# Altium schematic symbol library Flight_Computer1.SCHLIB: 60 symbols (part 1 of 4)
Pins are listed as number, name and electrical type; pins without a type are passive.

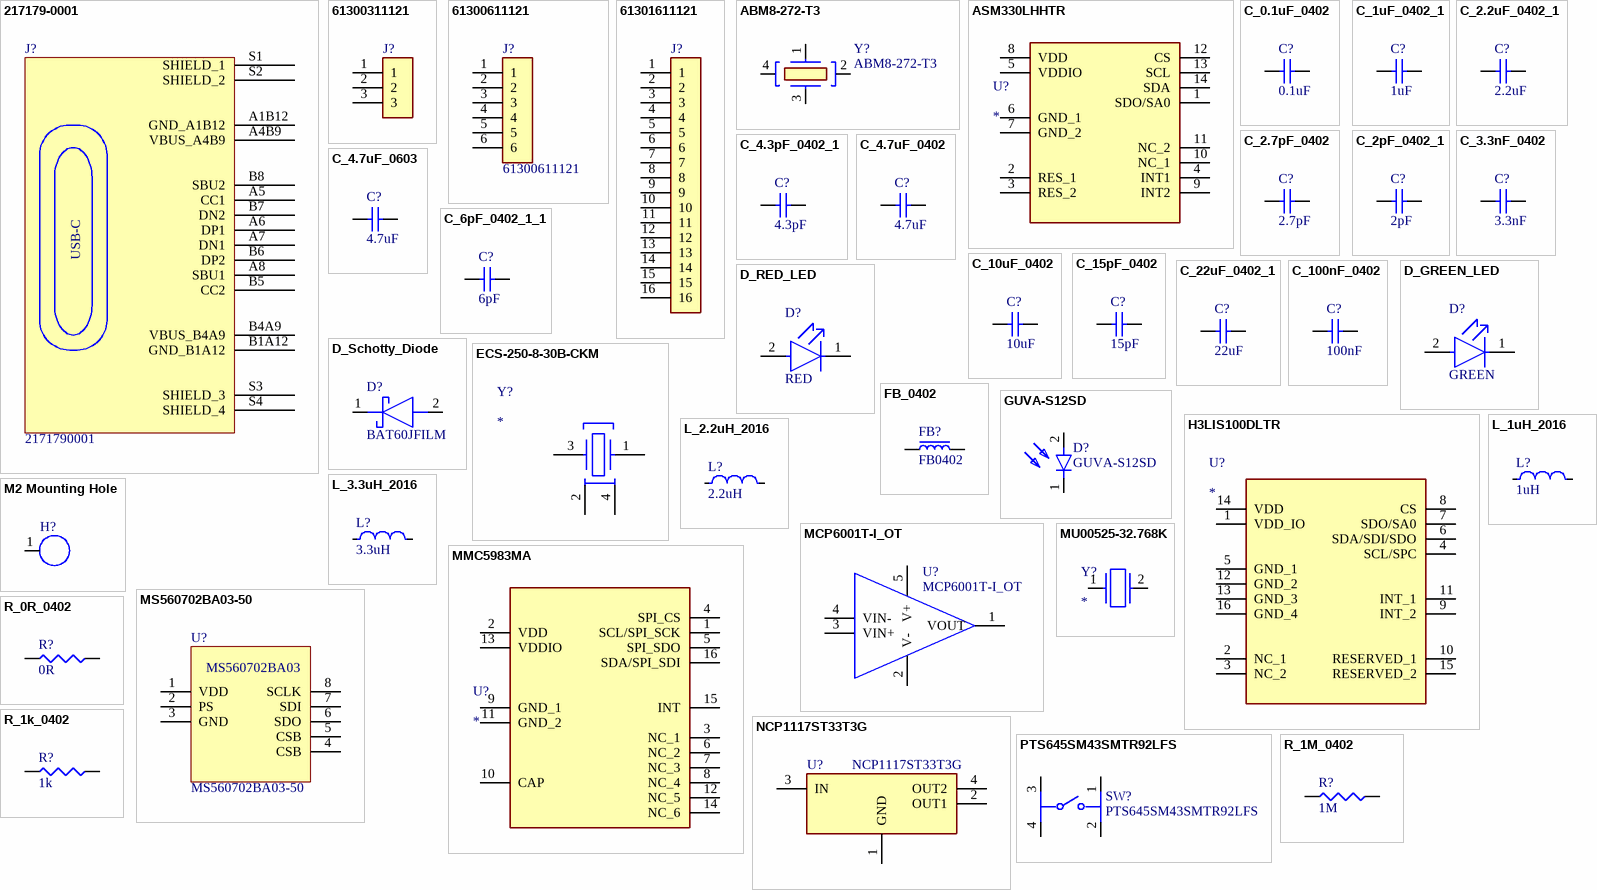
[diagram p0: symbols 217179-0001 to R_1M_0402]

## 217179-0001
designator J?, comment 2171790001
CONN RCP USB2.0 TYP C 24P SMD RA; Manufacturer: Molex; Manufacturer Part Number: 217179-0001; Supplier: Digikey; Supplier Part Number: 900-2171790001CT-ND; RoHS: No; Category: Connectors; Stock: 11294; Pricing: 1=0.98, 10=0.731, 25=0.6564, 50=0.6074, 100=0.5642, 250=0.51468, 500=0.48234, 1200=0.44689, 2400=0.42258, 3600=0.40973, 6000=0.39484, 8400=0.38577, 12000=0.37675 (USD); LCSC Part #: C3197684
footprint FP-2171790001-MFG
pins: A1B12 GND_A1B12, A4B9 VBUS_A4B9, A5 CC1, A6 DP1, A7 DN1, A8 SBU1, B1A12 GND_B1A12, B4A9 VBUS_B4A9, B5 CC2, B6 DP2, B7 DN2, B8 SBU2, S1 SHIELD_1, S2 SHIELD_2, S3 SHIELD_3, S4 SHIELD_4
text: USB-C

## 61300311121
designator J?  (value not drawn)
3 pin Connector 2.54mm; Manufacturer_Name: Wurth Elektronik; Manufacturer_Part_Number: 61300711121; Datasheet Link: http://katalog.we-online.de/em/datasheet/6130xx11121.pdf; Height: 8.69mm; Mouser Part Number: 710-61300711121; Mouser Price/Stock: https://www.mouser.co.uk/ProductDetail/Wurth-Elektronik/61300711121?qs=PhR8RmCirEa4Kw6rJ18PJA%3D%3D
footprint WURTH_61300311121
pins: 1, 2, 3

## 61300611121
designator J?
THT Vertical Pin Header WR-PHD, Pitch 2.54 mm, Single Row, 6 pins; Manufacturer_Name: Wurth Elektronik; Manufacturer_Part_Number: 61300711121; Connector Type: Male Pin; Contact Resistance: 20mΩ; Current Rating: 3A; Gender: Male; Number of Contacts: 6; Operating Supply Voltage: 250V; Pitch: 2.54mm; Datasheet Link: http://katalog.we-online.de/em/datasheet/6130xx11121.pdf; Height: 8.69mm; Mouser Part Number: 710-61300711121; Mouser Price/Stock: https://www.mouser.co.uk/ProductDetail/Wurth-Elektronik/61300711121?qs=PhR8RmCirEa4Kw6rJ18PJA%3D%3D; Supplier: DigiKey; Supplier Part Number: 732-5319-ND; Manufacturer: Wurth Elektronik; Manufacturer Part Number: 61300611121; RoHS: Compliant; Category: Headers and Wire Housings; Stock: 56086; Pricing: 1=0.31, 10=0.268, 25=0.2224, 50=0.1864, 100=0.1683, 1000=0.1539 (USD); Color: Black; Contact Gender: Male; Contact Material: Gold; Contact Mating Length: 5.9944mm; Contact Plating: Gold; Housing Material: PBT; Lead Free: Lead Free; Lead Pitch: 2.54mm; Max Operating Temperature: 105°C; Min Operating Temperature: -40°C; Mounting Technology: Through Hole; Pins: 6; Number of Positions: 6; Number of Rows: 1; Orientation: Vertical; Packaging: Bulk; Termination: Through Hole; Voltage Rating: 250V; ComponentLink1URL: https://datasheet.octopart.com:443/61300611121-W%C3%BCrth-Elektronik-datasheet-44382959.pdf?src-supplier=Future+Electronics; ComponentLink1Description: https://datasheet.octopart.com:443/61300611121-W%C3%BCrth-Elektronik-datasheet-44382959.pdf?src-supplier=Future+Electronics; ComponentLink2URL: https://datasheet.octopart.com:443/61300611121-W%C3%BCrth-Elektronik-datasheet-149524072.pdf?src-supplier=Farnell; ComponentLink2Description: https://datasheet.octopart.com:443/61300611121-W%C3%BCrth-Elektronik-datasheet-149524072.pdf?src-supplier=Farnell; ComponentLink3URL: https://datasheet.octopart.com:443/61300611121-Wurth-Elektronik-datasheet-181533275.pdf?src-supplier=Farnell; ComponentLink3Description: https://datasheet.octopart.com:443/61300611121-Wurth-Elektronik-datasheet-181533275.pdf?src-supplier=Farnell; ComponentLink4URL: https://datasheet.octopart.com:443/61300611121-W%C3%BCrth-Elektronik-datasheet-21154836.pdf?src-supplier=element14+APAC; ComponentLink4Description: https://datasheet.octopart.com:443/61300611121-W%C3%BCrth-Elektronik-datasheet-21154836.pdf?src-supplier=element14+APAC
footprint 61300611121
pins: 1, 2, 3, 4, 5, 6

## 61301611121
designator J?  (value not drawn)
16 pin Connector 2.54mm; Manufacturer_Name: Wurth Elektronik; Manufacturer_Part_Number: 61300711121; Datasheet Link: http://katalog.we-online.de/em/datasheet/6130xx11121.pdf; Height: 8.69mm; Mouser Part Number: 710-61300711121; Mouser Price/Stock: https://www.mouser.co.uk/ProductDetail/Wurth-Elektronik/61300711121?qs=PhR8RmCirEa4Kw6rJ18PJA%3D%3D
footprint 61301611121
pins: 1, 2, 3, 4, 5, 6, 7, 8, 9, 10, 11, 12, 13, 14, 15, 16

## ABM8-272-T3
designator Y?
Crystal or Oscillator; Manufacturer_Name: ABRACON; Datasheet Link: https://abracon.com/datasheets/ABM8-272-T3.pdf; Height: 0.8mm; Manufacturer_Part_Number: ABM8-272-T3; Mouser Part Number: 815-ABM8-272-T3; Mouser Price/Stock: https://www.mouser.co.uk/ProductDetail/ABRACON/ABM8-272-T3?qs=QpmGXVUTftEj6miOiJBMxQ%3D%3D; LCSC Part #: C20625731
footprint ABM8272T3
pins: 1, 2 GND_1, 3, 4 GND_2

## ASM330LHHTR
designator U?
Accelerometer and Gyroscope 6-Axis 3D Digital-I2C/Digital-SPI-OUT 14-Pin LGA T/R; Manufacturer_Name: STMicroelectronics; Manufacturer_Part_Number: ASM330LHHTR; Max Supply Voltage: 3.6V; Min Supply Voltage: 2V; Number of Circuits: 1; Operating Supply Voltage: 3V; Datasheet Link: https://www.st.com/resource/en/datasheet/asm330lhh.pdf; Height: 0.86mm; Mouser Part Number: 511-ASM330LHHTR; Mouser Price/Stock: https://www.mouser.co.uk/ProductDetail/STMicroelectronics/ASM330LHHTR?qs=lc2O%252BfHJPVYgP8P9MzExKQ%3D%3D; Arrow Part Number: ASM330LHHTR; Arrow Price/Stock: https://www.arrow.com/en/products/asm330lhhtr/stmicroelectronics?utm_currency=USD&region=europe; Supplier: DigiKey; Supplier Part Number: 497-19078-1-ND; Manufacturer: STMicroelectronics; Manufacturer Part Number: ASM330LHHTR; RoHS: Compliant; Category: Accelerometers; Stock: 5000; Pricing: 1=7.25, 5=6.54, 10=6.275, 25=5.9592, 50=5.743, 100=5.545, 500=5.34888 (USD); China RoHS: Non-Compliant; Height - Seated (Max): 860µm; Length: 3mm; Lifecycle Status: Production; Max Operating Temperature: 105°C; Min Operating Temperature: -40°C; Number of Terminals: 14; Output Type: Digital; REACH SVHC: Yes; Terminal Pitch: 500µm; Width: 2.5mm; ComponentLink1URL: https://datasheet.octopart.com:443/ASM330LHHTR-STMicroelectronics-datasheet-181242432.pdf?src-supplier=IHS; ComponentLink1Description: https://datasheet.octopart.com:443/ASM330LHHTR-STMicroelectronics-datasheet-181242432.pdf?src-supplier=IHS; ComponentLink2URL: https://datasheet.octopart.com:443/ASM330LHHTR-STMicroelectronics-datasheet-129375621.pdf?src-supplier=ODG+(Origin+Data+Global); ComponentLink2Description: https://datasheet.octopart.com:443/ASM330LHHTR-STMicroelectronics-datasheet-129375621.pdf?src-supplier=ODG+(Origin+Data+Global); LCSC Part #: C459826
footprint LSM6DS3USTR
pins: 1 SDO/SA0, 2 RES_1, 3 RES_2, 4 INT1, 5 VDDIO, 6 GND_1, 7 GND_2, 8 VDD, 9 INT2, 10 NC_1, 11 NC_2, 12 CS, 13 SCL, 14 SDA

## C_0.1uF_0402
designator C?, comment 0.1uF
Ceramic Capacitor, Ceramic, 16V, 10% +Tol, 10% -Tol, X7R, 15% TC, 0.1uF, Surface Mount, 0402; Manufacturer: Murata; Manufacturer Part Number: GCM155R71C104KA55J; Manufacturer Lifecycle Status: IN PRODUCTION; Value: 100nF; Supplier: DigiKey; Supplier Part Number: 490-7998-1-ND; RoHS: Compliant; Category: Ceramic Capacitors; Stock: 11058802; Pricing: 1=0.1, 10=0.029, 50=0.0194, 100=0.0165, 500=0.01168, 1000=0.01021, 2500=0.00867, 5000=0.00775 (USD); Case/Package: 0402; Case Code (Imperial): 0402; Case Code (Metric): 1005; Depth: 500µm; Dielectric: X7R; Dielectric Material: Ceramic; Height: 500µm; Lead Free: Lead Free; Length: 1mm; Lifecycle Status: Production; Material: Ceramic; Max Operating Temperature: 125°C; Min Operating Temperature: -55°C; Mounting Technology: Surface Mount; Number of Terminals: 2; Radiation Hardening: No; Ratings: AEC-Q200; REACH SVHC: Yes; Schedule B: 8532240020, 8532240020|8532240020, 8532240020|8532240020|8532240020, 8532240020|8532240020|8532240020|8532240020; Termination: SMD/SMT; Tolerance: 10%; Voltage Rating: 16V; Voltage Rating (DC): 16V; Width: 500µm; ComponentLink1URL: https://datasheet.octopart.com:443/GCM155R71C104KA55J-Murata-datasheet-149522428.pdf?src-supplier=Newark; ComponentLink1Description: https://datasheet.octopart.com:443/GCM155R71C104KA55J-Murata-datasheet-149522428.pdf?src-supplier=Newark; ComponentLink2URL: https://datasheet.octopart.com:443/GCM155R71C104KA55J-Murata-datasheet-14404342.pdf?src-supplier=Future+Electronics; ComponentLink2Description: https://datasheet.octopart.com:443/GCM155R71C104KA55J-Murata-datasheet-14404342.pdf?src-supplier=Future+Electronics; ComponentLink3URL: https://datasheet.octopart.com:443/GCM155R71C104KA55J-Murata-datasheet-13304905.pdf?src-supplier=Future+Electronics; ComponentLink3Description: https://datasheet.octopart.com:443/GCM155R71C104KA55J-Murata-datasheet-13304905.pdf?src-supplier=Future+Electronics; ComponentLink4URL: https://datasheet.octopart.com:443/GCM155R71C104KA55J-Murata-datasheet-44104237.pdf?src-supplier=Future+Electronics; ComponentLink4Description: https://datasheet.octopart.com:443/GCM155R71C104KA55J-Murata-datasheet-44104237.pdf?src-supplier=Future+Electronics; ComponentLink5URL: https://datasheet.octopart.com:443/GCM155R71C104KA55J-Murata-datasheet-178521754.pdf?src-supplier=Arrow.cn; ComponentLink5Description: https://datasheet.octopart.com:443/GCM155R71C104KA55J-Murata-datasheet-178521754.pdf?src-supplier=Arrow.cn; ComponentLink6URL: https://datasheet.octopart.com:443/GCM155R71C104KA55J-Murata-datasheet-141266224.pdf?src-supplier=Ciiva; ComponentLink6Description: https://datasheet.octopart.com:443/GCM155R71C104KA55J-Murata-datasheet-141266224.pdf?src-supplier=Ciiva; ComponentLink7URL: https://datasheet.octopart.com:443/GCM155R71C104KA55J-Murata-datasheet-140656701.pdf?src-supplier=Ciiva; ComponentLink7Description: https://datasheet.octopart.com:443/GCM155R71C104KA55J-Murata-datasheet-140656701.pdf?src-supplier=Ciiva; ComponentLink8URL: https://datasheet.octopart.com:443/GCM155R71C104KA55J-Murata-datasheet-138716406.pdf?src-supplier=Ciiva; ComponentLink8Description: https://datasheet.octopart.com:443/GCM155R71C104KA55J-Murata-datasheet-138716406.pdf?src-supplier=Ciiva; ComponentLink9URL: https://datasheet.octopart.com:443/GCM155R71C104KA55J-Murata-datasheet-12511495.pdf?src-supplier=TME; ComponentLink9Description: https://datasheet.octopart.com:443/GCM155R71C104KA55J-Murata-datasheet-12511495.pdf?src-supplier=TME; ComponentLink10URL: http://sigma.octopart.com:80/reach_statement/Murata-company-16.pdf?src-supplier=Compliance+Statements; ComponentLink10Description: http://sigma.octopart.com:80/reach_statement/Murata-company-16.pdf?src-supplier=Compliance+Statements; LCSC Part #: C2655418
footprint 0402_C
pins: 1, 2

## C_1uF_0402_1
designator C?, comment 1uF
CAP CER 1UF 6.3V X5R 0402; Manufacturer: KYOCERA AVX; Manufacturer Part Number: 04026D105KAT4A; Value: 1µF; Dielectric Material: Ceramic; Tolerance: 10%; Supplier: DigiKey; Supplier Part Number: 478-KGM05AR50J105KNCT-ND; RoHS: Compliant; Category: Ceramic Capacitors; Stock: 202864; Pricing: 1=0.1, 10=0.047, 50=0.0318, 100=0.0274, 500=0.01992, 1000=0.01763, 2500=0.01522, 5000=0.01376 (USD); Case/Package: 0402; Case Code (Imperial): 0402; Case Code (Metric): 1005; China RoHS: Compliant; Contact Plating: Tin; Depth: 500µm; Dielectric: X5R; Height: 560µm; Lead Free: Lead Free; Length: 1mm; Lifecycle Status: Production; Max Operating Temperature: 85°C; Min Operating Temperature: -55°C; Mounting Technology: Surface Mount; Pins: 2; Number of Terminals: 2; Packaging: Tape and Reel; Radiation Hardening: No; REACH SVHC: Yes; Termination: SMD/SMT; Voltage Rating: 6.3V; Voltage Rating (DC): 6.3V; Width: 500µm; ComponentLink1URL: https://datasheet.octopart.com:443/04026D105KAT4A-KYOCERA-AVX-datasheet-165873359.pdf?src-supplier=IHS; ComponentLink1Description: https://datasheet.octopart.com:443/04026D105KAT4A-KYOCERA-AVX-datasheet-165873359.pdf?src-supplier=IHS; ComponentLink2URL: https://datasheet.octopart.com:443/04026D105KAT4A-AVX-Interconnect---Elco-datasheet-12340990.pdf?src-supplier=Farnell; ComponentLink2Description: https://datasheet.octopart.com:443/04026D105KAT4A-AVX-Interconnect---Elco-datasheet-12340990.pdf?src-supplier=Farnell; ComponentLink3URL: https://datasheet.octopart.com:443/04026D105KAT4A-KYOCERA-AVX-datasheet-78690022.pdf?src-supplier=element14+APAC; ComponentLink3Description: https://datasheet.octopart.com:443/04026D105KAT4A-KYOCERA-AVX-datasheet-78690022.pdf?src-supplier=element14+APAC; ComponentLink4URL: https://datasheet.octopart.com:443/04026D105KAT4A-KYOCERA-AVX-datasheet-155912759.pdf?src-supplier=TME; ComponentLink4Description: https://datasheet.octopart.com:443/04026D105KAT4A-KYOCERA-AVX-datasheet-155912759.pdf?src-supplier=TME; ComponentLink5URL: https://datasheet.octopart.com:443/04026D105KAT4A-KYOCERA-AVX-datasheet-50865064.pdf?src-supplier=Future+Electronics; ComponentLink5Description: https://datasheet.octopart.com:443/04026D105KAT4A-KYOCERA-AVX-datasheet-50865064.pdf?src-supplier=Future+Electronics; ComponentLink6URL: https://datasheet.octopart.com:443/04026D105KAT4A-AVX-datasheet-8448153.pdf?src-supplier=Future+Electronics; ComponentLink6Description: https://datasheet.octopart.com:443/04026D105KAT4A-AVX-datasheet-8448153.pdf?src-supplier=Future+Electronics; ComponentLink7URL: https://datasheet.octopart.com:443/04026D105KAT4A-AVX-datasheet-5314571.pdf?src-supplier=Future+Electronics; ComponentLink7Description: https://datasheet.octopart.com:443/04026D105KAT4A-AVX-datasheet-5314571.pdf?src-supplier=Future+Electronics; ComponentLink8URL: https://datasheet.octopart.com/04026D105KAT4A-KYOCERA-AVX-datasheet-13516023.pdf; ComponentLink8Description: https://datasheet.octopart.com/04026D105KAT4A-KYOCERA-AVX-datasheet-13516023.pdf; ComponentLink9URL: http://sigma.octopart.com:80/reach_statement/AVX-company-19.pdf?src-supplier=Compliance+Statements; ComponentLink9Description: http://sigma.octopart.com:80/reach_statement/AVX-company-19.pdf?src-supplier=Compliance+Statements; ComponentLink10URL: http://sigma.octopart.com:80/conflict_mineral_statement/AVX-company-34.pdf?src-supplier=Compliance+Statements; ComponentLink10Description: http://sigma.octopart.com:80/conflict_mineral_statement/AVX-company-34.pdf?src-supplier=Compliance+Statements; LCSC Part #: C2170652
footprint 0402_C
pins: 1, 2

## C_2.2uF_0402_1
designator C?, comment 2.2uF
Ceramic Capacitor, Ceramic, 25V, 20% +Tol, 20% -Tol, X5R, 15% TC, 2.2uF, Surface Mount, 0402; Manufacturer: Yageo Group; Manufacturer Part Number: CC0402MRX5R8BB225; Dielectric: C0G; Insulation Resistance: 10GΩ; Temperature Coefficient: 30ppm/°C; Voltage Rating: 50V; Value: 2.2µF; Case/Package: 0402; Case Code (Imperial): 0402; Case Code (Metric): 1005; China RoHS: Compliant; Composition: Ceramic; Depth: 500µm; Dielectric Material: Ceramic; Halogen Free: Halogen Free; Height: 500µm; Lead Free: Lead Free; Length: 1mm; Lifecycle Status: Production; Max Operating Temperature: 125°C; Min Operating Temperature: -55°C; Mounting Technology: Surface Mount; Pins: 2; Number of Terminals: 2; Packaging: Tape & Reel (TR); Radiation Hardening: No; REACH SVHC: Yes; Schedule B: 8532240020, 8532240020|8532240020|8532240020|8532240020|8532240020; Termination: SMD/SMT; Thickness: 558.8µm; Voltage Rating (DC): 50V; Weight: 652.039032µg; Width: 500µm; ComponentLink1URL: https://datasheet.octopart.com:443/CC0402CRNPO9BN2R7-Yageo-datasheet-182140217.pdf?src-supplier=IHS; ComponentLink1Description: https://datasheet.octopart.com:443/CC0402CRNPO9BN2R7-Yageo-datasheet-182140217.pdf?src-supplier=IHS; ComponentLink2URL: https://datasheet.octopart.com:443/CC0402CRNPO9BN2R7-Yageo-datasheet-151948684.pdf?src-supplier=Farnell; ComponentLink2Description: https://datasheet.octopart.com:443/CC0402CRNPO9BN2R7-Yageo-datasheet-151948684.pdf?src-supplier=Farnell; ComponentLink3URL: https://datasheet.octopart.com:443/CC0402CRNPO9BN2R7-Yageo-datasheet-181966735.pdf?src-supplier=Farnell; ComponentLink3Description: https://datasheet.octopart.com:443/CC0402CRNPO9BN2R7-Yageo-datasheet-181966735.pdf?src-supplier=Farnell; ComponentLink4URL: https://datasheet.octopart.com:443/CC0402CRNPO9BN2R7-Yageo-datasheet-137875056.pdf?src-supplier=Future+Electronics; ComponentLink4Description: https://datasheet.octopart.com:443/CC0402CRNPO9BN2R7-Yageo-datasheet-137875056.pdf?src-supplier=Future+Electronics; ComponentLink5URL: https://datasheet.octopart.com:443/CC0402CRNPO9BN2R7-Yageo-datasheet-136957424.pdf?src-supplier=Future+Electronics; ComponentLink5Description: https://datasheet.octopart.com:443/CC0402CRNPO9BN2R7-Yageo-datasheet-136957424.pdf?src-supplier=Future+Electronics; ComponentLink6URL: https://datasheet.octopart.com:443/CC0402CRNPO9BN2R7-Yageo-datasheet-137700082.pdf?src-supplier=Future+Electronics; ComponentLink6Description: https://datasheet.octopart.com:443/CC0402CRNPO9BN2R7-Yageo-datasheet-137700082.pdf?src-supplier=Future+Electronics; ComponentLink7URL: https://datasheet.octopart.com:443/CC0402CRNPO9BN2R7-Yageo-datasheet-78855684.pdf?src-supplier=Future+Electronics; ComponentLink7Description: https://datasheet.octopart.com:443/CC0402CRNPO9BN2R7-Yageo-datasheet-78855684.pdf?src-supplier=Future+Electronics; ComponentLink8URL: https://datasheet.octopart.com:443/CC0402CRNPO9BN2R7-Yageo-datasheet-24578986.pdf?src-supplier=Future+Electronics; ComponentLink8Description: https://datasheet.octopart.com:443/CC0402CRNPO9BN2R7-Yageo-datasheet-24578986.pdf?src-supplier=Future+Electronics; ComponentLink9URL: https://datasheet.octopart.com:443/CC0402CRNPO9BN2R7-Yageo-datasheet-16730043.pdf?src-supplier=Future+Electronics; ComponentLink9Description: https://datasheet.octopart.com:443/CC0402CRNPO9BN2R7-Yageo-datasheet-16730043.pdf?src-supplier=Future+Electronics; ComponentLink10URL: https://datasheet.octopart.com:443/CC0402CRNPO9BN2R7-Yageo-datasheet-12589826.pdf?src-supplier=Future+Electronics; ComponentLink10Description: https://datasheet.octopart.com:443/CC0402CRNPO9BN2R7-Yageo-datasheet-12589826.pdf?src-supplier=Future+Electronics; ComponentLink11URL: https://datasheet.octopart.com:443/CC0402CRNPO9BN2R7-Yageo-datasheet-10406438.pdf?src-supplier=Newark; ComponentLink11Description: https://datasheet.octopart.com:443/CC0402CRNPO9BN2R7-Yageo-datasheet-10406438.pdf?src-supplier=Newark; ComponentLink12URL: https://datasheet.octopart.com:443/CC0402CRNPO9BN2R7-Yageo-datasheet-65873193.pdf?src-supplier=Newark; ComponentLink12Description: https://datasheet.octopart.com:443/CC0402CRNPO9BN2R7-Yageo-datasheet-65873193.pdf?src-supplier=Newark; ComponentLink13URL: https://datasheet.octopart.com:443/CC0402CRNPO9BN2R7-Yageo-datasheet-68296204.pdf?src-supplier=Megastar; ComponentLink13Description: https://datasheet.octopart.com:443/CC0402CRNPO9BN2R7-Yageo-datasheet-68296204.pdf?src-supplier=Megastar; ComponentLink14URL: http://sigma.octopart.com:80/rohs_statement/Yageo-company-2.pdf?src-supplier=Compliance+Statements; ComponentLink14Description: http://sigma.octopart.com:80/rohs_statement/Yageo-company-2.pdf?src-supplier=Compliance+Statements; ComponentLink15URL: http://sigma.octopart.com:80/conflict_mineral_statement/Yageo-company-3.pdf?src-supplier=Compliance+Statements; ComponentLink15Description: http://sigma.octopart.com:80/conflict_mineral_statement/Yageo-company-3.pdf?src-supplier=Compliance+Statements; LCSC Part #: C277484; Supplier: DigiKey; Supplier Part Number: 13-CC0402MRX5R8BB225CT-ND; RoHS: Compliant; Category: Ceramic Capacitors; Stock: 20337; Pricing: 1=0.3, 10=0.176, 50=0.1282, 100=0.1135, 500=0.08336, 1000=0.08124, 2500=0.07321, 5000=0.06838 (USD); Material: Ceramic; ComponentLink16URL: https://datasheet.octopart.com:443/CC0402MRX5R8BB225-Yageo-datasheet-170350636.pdf?src-supplier=IHS; ComponentLink16Description: https://datasheet.octopart.com:443/CC0402MRX5R8BB225-Yageo-datasheet-170350636.pdf?src-supplier=IHS; ComponentLink17URL: https://datasheet.octopart.com:443/CC0402MRX5R8BB225-Yageo-datasheet-78855684.pdf?src-supplier=Upverter; ComponentLink17Description: https://datasheet.octopart.com:443/CC0402MRX5R8BB225-Yageo-datasheet-78855684.pdf?src-supplier=Upverter; ComponentLink18URL: https://datasheet.octopart.com:443/CC0402MRX5R8BB225-Yageo-datasheet-181967557.pdf?src-supplier=Farnell; ComponentLink18Description: https://datasheet.octopart.com:443/CC0402MRX5R8BB225-Yageo-datasheet-181967557.pdf?src-supplier=Farnell; ComponentLink19URL: https://datasheet.octopart.com:443/CC0402MRX5R8BB225-Yageo-datasheet-181967556.pdf?src-supplier=Farnell; ComponentLink19Description: https://datasheet.octopart.com:443/CC0402MRX5R8BB225-Yageo-datasheet-181967556.pdf?src-supplier=Farnell; ComponentLink20URL: https://datasheet.octopart.com:443/CC0402MRX5R8BB225-Yageo-datasheet-145016144.pdf?src-supplier=ODG+(Origin+Data+Global); ComponentLink20Description: https://datasheet.octopart.com:443/CC0402MRX5R8BB225-Yageo-datasheet-145016144.pdf?src-supplier=ODG+(Origin+Data+Global); ComponentLink21URL: https://datasheet.octopart.com/CC0402MRX5R8BB225-Yageo-datasheet-86397281.pdf; ComponentLink21Description: https://datasheet.octopart.com/CC0402MRX5R8BB225-Yageo-datasheet-86397281.pdf; Supplier 1: DigiKey; Supplier Part Number 1: 13-CC0402KRX5R8BB225CT-ND; LCSC Part #: C723363
footprint 0402_C
pins: 1, 2

## C_2.7pF_0402
designator C?, comment 2.7pF
CAP CER 2.7PF 50V C0G/NPO 0402; Manufacturer: Yageo Group; Manufacturer Part Number: CC0402CRNPO9BN2R7; Dielectric: C0G; Dielectric Material: Ceramic; Insulation Resistance: 10GΩ; Temperature Coefficient: 30ppm/°C; Supplier: DigiKey; Supplier Part Number: 311-1005-1-ND; RoHS: Compliant; Category: Ceramic Capacitors; Stock: 127332; Pricing: 1=0.1, 10=0.024, 50=0.0156, 100=0.0133, 500=0.00934, 1000=0.00812, 2500=0.00685, 5000=0.00609 (USD); Value: 2.7pF; Case/Package: 0402; Case Code (Imperial): 0402; Case Code (Metric): 1005; China RoHS: Compliant; Composition: Ceramic; Depth: 500µm; Halogen Free: Halogen Free; Height: 500µm; Lead Free: Lead Free; Length: 1mm; Lifecycle Status: Production; Max Operating Temperature: 125°C; Min Operating Temperature: -55°C; Mounting Technology: Surface Mount; Pins: 2; Number of Terminals: 2; Packaging: Tape & Reel (TR); Radiation Hardening: No; REACH SVHC: Yes; Schedule B: 8532240020, 8532240020|8532240020|8532240020|8532240020|8532240020; Termination: SMD/SMT; Thickness: 558.8µm; Voltage Rating: 50V; Voltage Rating (DC): 50V; Weight: 652.039032µg; Width: 500µm; ComponentLink1URL: https://datasheet.octopart.com:443/CC0402CRNPO9BN2R7-Yageo-datasheet-182140217.pdf?src-supplier=IHS; ComponentLink1Description: https://datasheet.octopart.com:443/CC0402CRNPO9BN2R7-Yageo-datasheet-182140217.pdf?src-supplier=IHS; ComponentLink2URL: https://datasheet.octopart.com:443/CC0402CRNPO9BN2R7-Yageo-datasheet-151948684.pdf?src-supplier=Farnell; ComponentLink2Description: https://datasheet.octopart.com:443/CC0402CRNPO9BN2R7-Yageo-datasheet-151948684.pdf?src-supplier=Farnell; ComponentLink3URL: https://datasheet.octopart.com:443/CC0402CRNPO9BN2R7-Yageo-datasheet-181966735.pdf?src-supplier=Farnell; ComponentLink3Description: https://datasheet.octopart.com:443/CC0402CRNPO9BN2R7-Yageo-datasheet-181966735.pdf?src-supplier=Farnell; ComponentLink4URL: https://datasheet.octopart.com:443/CC0402CRNPO9BN2R7-Yageo-datasheet-137875056.pdf?src-supplier=Future+Electronics; ComponentLink4Description: https://datasheet.octopart.com:443/CC0402CRNPO9BN2R7-Yageo-datasheet-137875056.pdf?src-supplier=Future+Electronics; ComponentLink5URL: https://datasheet.octopart.com:443/CC0402CRNPO9BN2R7-Yageo-datasheet-136957424.pdf?src-supplier=Future+Electronics; ComponentLink5Description: https://datasheet.octopart.com:443/CC0402CRNPO9BN2R7-Yageo-datasheet-136957424.pdf?src-supplier=Future+Electronics; ComponentLink6URL: https://datasheet.octopart.com:443/CC0402CRNPO9BN2R7-Yageo-datasheet-137700082.pdf?src-supplier=Future+Electronics; ComponentLink6Description: https://datasheet.octopart.com:443/CC0402CRNPO9BN2R7-Yageo-datasheet-137700082.pdf?src-supplier=Future+Electronics; ComponentLink7URL: https://datasheet.octopart.com:443/CC0402CRNPO9BN2R7-Yageo-datasheet-78855684.pdf?src-supplier=Future+Electronics; ComponentLink7Description: https://datasheet.octopart.com:443/CC0402CRNPO9BN2R7-Yageo-datasheet-78855684.pdf?src-supplier=Future+Electronics; ComponentLink8URL: https://datasheet.octopart.com:443/CC0402CRNPO9BN2R7-Yageo-datasheet-24578986.pdf?src-supplier=Future+Electronics; ComponentLink8Description: https://datasheet.octopart.com:443/CC0402CRNPO9BN2R7-Yageo-datasheet-24578986.pdf?src-supplier=Future+Electronics; ComponentLink9URL: https://datasheet.octopart.com:443/CC0402CRNPO9BN2R7-Yageo-datasheet-16730043.pdf?src-supplier=Future+Electronics; ComponentLink9Description: https://datasheet.octopart.com:443/CC0402CRNPO9BN2R7-Yageo-datasheet-16730043.pdf?src-supplier=Future+Electronics; ComponentLink10URL: https://datasheet.octopart.com:443/CC0402CRNPO9BN2R7-Yageo-datasheet-12589826.pdf?src-supplier=Future+Electronics; ComponentLink10Description: https://datasheet.octopart.com:443/CC0402CRNPO9BN2R7-Yageo-datasheet-12589826.pdf?src-supplier=Future+Electronics; ComponentLink11URL: https://datasheet.octopart.com:443/CC0402CRNPO9BN2R7-Yageo-datasheet-10406438.pdf?src-supplier=Newark; ComponentLink11Description: https://datasheet.octopart.com:443/CC0402CRNPO9BN2R7-Yageo-datasheet-10406438.pdf?src-supplier=Newark; ComponentLink12URL: https://datasheet.octopart.com:443/CC0402CRNPO9BN2R7-Yageo-datasheet-65873193.pdf?src-supplier=Newark; ComponentLink12Description: https://datasheet.octopart.com:443/CC0402CRNPO9BN2R7-Yageo-datasheet-65873193.pdf?src-supplier=Newark; ComponentLink13URL: https://datasheet.octopart.com:443/CC0402CRNPO9BN2R7-Yageo-datasheet-68296204.pdf?src-supplier=Megastar; ComponentLink13Description: https://datasheet.octopart.com:443/CC0402CRNPO9BN2R7-Yageo-datasheet-68296204.pdf?src-supplier=Megastar; ComponentLink14URL: http://sigma.octopart.com:80/rohs_statement/Yageo-company-2.pdf?src-supplier=Compliance+Statements; ComponentLink14Description: http://sigma.octopart.com:80/rohs_statement/Yageo-company-2.pdf?src-supplier=Compliance+Statements; ComponentLink15URL: http://sigma.octopart.com:80/conflict_mineral_statement/Yageo-company-3.pdf?src-supplier=Compliance+Statements; ComponentLink15Description: http://sigma.octopart.com:80/conflict_mineral_statement/Yageo-company-3.pdf?src-supplier=Compliance+Statements; LCSC Part #: C277484
footprint 0402_C
pins: 1, 2

## C_2pF_0402_1
designator C?, comment 2pF
CAP CER 2PF 50V C0G/NP0 0402; Manufacturer: KEMET; Manufacturer Part Number: C0402C209D5GACAUTO; Dielectric Material: Ceramic; Insulation Resistance: 10GΩ; Temperature Coefficient: 30ppm/°C; Dielectric: C0G; Halogen Free: Halogen Free; Height: 500µm; Lead Free: Lead Free; Length: 1mm; Lifecycle Status: Production; Max Operating Temperature: 125°C; Min Operating Temperature: -55°C; Mounting Technology: Surface Mount; Pins: 2; Number of Terminals: 2; Packaging: Tape & Reel (TR); Radiation Hardening: No; REACH SVHC: Yes; Schedule B: 8532240020, 8532240020|8532240020|8532240020|8532240020|8532240020; Termination: SMD/SMT; Thickness: 558.8µm; Voltage Rating: 50V; Voltage Rating (DC): 50V; Weight: 652.039032µg; Width: 500µm; ComponentLink10URL: https://datasheet.octopart.com:443/CC0402CRNPO9BN2R7-Yageo-datasheet-12589826.pdf?src-supplier=Future+Electronics; ComponentLink10Description: https://datasheet.octopart.com:443/CC0402CRNPO9BN2R7-Yageo-datasheet-12589826.pdf?src-supplier=Future+Electronics; ComponentLink11URL: https://datasheet.octopart.com:443/CC0402CRNPO9BN2R7-Yageo-datasheet-10406438.pdf?src-supplier=Newark; ComponentLink11Description: https://datasheet.octopart.com:443/CC0402CRNPO9BN2R7-Yageo-datasheet-10406438.pdf?src-supplier=Newark; ComponentLink12URL: https://datasheet.octopart.com:443/CC0402CRNPO9BN2R7-Yageo-datasheet-65873193.pdf?src-supplier=Newark; ComponentLink12Description: https://datasheet.octopart.com:443/CC0402CRNPO9BN2R7-Yageo-datasheet-65873193.pdf?src-supplier=Newark; ComponentLink13URL: https://datasheet.octopart.com:443/CC0402CRNPO9BN2R7-Yageo-datasheet-68296204.pdf?src-supplier=Megastar; ComponentLink13Description: https://datasheet.octopart.com:443/CC0402CRNPO9BN2R7-Yageo-datasheet-68296204.pdf?src-supplier=Megastar; ComponentLink14URL: http://sigma.octopart.com:80/rohs_statement/Yageo-company-2.pdf?src-supplier=Compliance+Statements; ComponentLink14Description: http://sigma.octopart.com:80/rohs_statement/Yageo-company-2.pdf?src-supplier=Compliance+Statements; ComponentLink15URL: http://sigma.octopart.com:80/conflict_mineral_statement/Yageo-company-3.pdf?src-supplier=Compliance+Statements; ComponentLink15Description: http://sigma.octopart.com:80/conflict_mineral_statement/Yageo-company-3.pdf?src-supplier=Compliance+Statements; LCSC Part #: C1845608; Supplier: DigiKey; Supplier Part Number: 399-15779-1-ND; RoHS: Compliant; Category: Ceramic Capacitors; Stock: 9730; Pricing: 1=0.36, 10=0.275, 50=0.0862 (USD); Value: 2pF; Case/Package: 0402; China RoHS: Compliant; Material: Ceramic; ComponentLink1URL: https://datasheet.octopart.com:443/C0402C209D5GACAUTO-KEMET-datasheet-178087916.pdf?src-supplier=IHS; ComponentLink1Description: https://datasheet.octopart.com:443/C0402C209D5GACAUTO-KEMET-datasheet-178087916.pdf?src-supplier=IHS; ComponentLink2URL: https://datasheet.octopart.com:443/C0402C209D5GACAUTO-KEMET-datasheet-137357759.pdf?src-supplier=Upverter; ComponentLink2Description: https://datasheet.octopart.com:443/C0402C209D5GACAUTO-KEMET-datasheet-137357759.pdf?src-supplier=Upverter; ComponentLink3URL: https://datasheet.octopart.com:443/C0402C209D5GACAUTO-KEMET-datasheet-157246110.pdf?src-supplier=Electro+Sonic; ComponentLink3Description: https://datasheet.octopart.com:443/C0402C209D5GACAUTO-KEMET-datasheet-157246110.pdf?src-supplier=Electro+Sonic; ComponentLink4URL: https://datasheet.octopart.com:443/C0402C209D5GACAUTO-KEMET-datasheet-149534747.pdf?src-supplier=Farnell; ComponentLink4Description: https://datasheet.octopart.com:443/C0402C209D5GACAUTO-KEMET-datasheet-149534747.pdf?src-supplier=Farnell; ComponentLink5URL: https://datasheet.octopart.com:443/C0402C209D5GACAUTO-KEMET-datasheet-100087244.pdf?src-supplier=Farnell; ComponentLink5Description: https://datasheet.octopart.com:443/C0402C209D5GACAUTO-KEMET-datasheet-100087244.pdf?src-supplier=Farnell; ComponentLink6URL: https://datasheet.octopart.com:443/C0402C209D5GACAUTO-KEMET-datasheet-182899586.pdf?src-supplier=Farnell; ComponentLink6Description: https://datasheet.octopart.com:443/C0402C209D5GACAUTO-KEMET-datasheet-182899586.pdf?src-supplier=Farnell; ComponentLink7URL: https://datasheet.octopart.com/C0402C209D5GACAUTO-KEMET-datasheet-84169754.pdf; ComponentLink7Description: https://datasheet.octopart.com/C0402C209D5GACAUTO-KEMET-datasheet-84169754.pdf
footprint 0402_C
pins: 1, 2

## C_3.3nF_0402
designator C?, comment 3.3nF
CAP CER 3300PF (3.3nF) 10V X7R 0402; Manufacturer: Samsung Electro-Mechanics; Manufacturer Part Number: CL05B332KA5VPNC; Dielectric Material: Ceramic; Tolerance: 10%; Voltage Rating: 25V; Supplier: DigiKey; Supplier Part Number: 1276-CL05B332KA5VPNCCT-ND; RoHS: Compliant; Category: Ceramic Capacitors; Stock: 24876; Pricing: 1=0.1, 10=0.034, 50=0.0226, 100=0.0193, 500=0.0138, 1000=0.01212, 2500=0.01034, 5000=0.00928 (USD); Value: 3.3nF; Case/Package: 0402; China RoHS: Compliant; Height: 500µm; Length: 1mm; Lifecycle Status: Production; Material: Ceramic; Max Operating Temperature: 125°C; Min Operating Temperature: -55°C; Mounting Technology: Surface Mount; Number of Terminals: 2; REACH SVHC: Yes; Voltage Rating (DC): 25V; Width: 500µm; ComponentLink1URL: https://datasheet.octopart.com:443/CL05B332KA5VPNC-Samsung-Electro-Mechanics-datasheet-176142735.pdf?src-supplier=IHS; ComponentLink1Description: https://datasheet.octopart.com:443/CL05B332KA5VPNC-Samsung-Electro-Mechanics-datasheet-176142735.pdf?src-supplier=IHS; Case Code (Imperial): 0402; Case Code (Metric): 1005; Dielectric: X7R; Pins: 2; Termination: SMD/SMT; Weight: 652.039032µg; ComponentLink2URL: https://datasheet.octopart.com:443/C0402C332M8RACTU-KEMET-datasheet-178445679.pdf?src-supplier=IHS; ComponentLink2Description: https://datasheet.octopart.com:443/C0402C332M8RACTU-KEMET-datasheet-178445679.pdf?src-supplier=IHS; ComponentLink3URL: https://datasheet.octopart.com:443/C0402C332M8RACTU-KEMET-datasheet-137357759.pdf?src-supplier=Upverter; ComponentLink3Description: https://datasheet.octopart.com:443/C0402C332M8RACTU-KEMET-datasheet-137357759.pdf?src-supplier=Upverter; ComponentLink4URL: https://datasheet.octopart.com:443/C0402C332M8RACTU-KEMET-datasheet-157246124.pdf?src-supplier=Electro+Sonic; ComponentLink4Description: https://datasheet.octopart.com:443/C0402C332M8RACTU-KEMET-datasheet-157246124.pdf?src-supplier=Electro+Sonic; ComponentLink5URL: https://datasheet.octopart.com/C0402C332M8RACTU-KEMET-datasheet-84169754.pdf; ComponentLink5Description: https://datasheet.octopart.com/C0402C332M8RACTU-KEMET-datasheet-84169754.pdf; LCSC Part #: C20793063
footprint 0402_C
pins: 1, 2

## C_4.3pF_0402_1
designator C?, comment 4.3pF
CAP CER 4.3PF 50V C0G/NPO 0402; Manufacturer: Yageo Group; Manufacturer Part Number: CC0402CRNPO9BN4R3; Dielectric: C0G; Dielectric Material: Ceramic; Supplier: DigiKey; Supplier Part Number: 311-1632-1-ND; RoHS: Compliant; Category: Ceramic Capacitors; Stock: 63452; Pricing: 1=0.1, 10=0.024, 50=0.0162, 100=0.0137, 500=0.00962, 1000=0.00838, 2500=0.00708, 5000=0.00629 (USD); Value: 4.3pF; Case/Package: 0402; Case Code (Imperial): 0402; Case Code (Metric): 1005; China RoHS: Compliant; Composition: Ceramic; Depth: 500µm; Halogen Free: Halogen Free; Height: 500µm; Lead Free: Lead Free; Length: 1mm; Lifecycle Status: Production; Max Operating Temperature: 125°C; Min Operating Temperature: -55°C; Mounting Technology: Surface Mount; Number of Terminals: 2; Packaging: Tape and Reel; Radiation Hardening: No; REACH SVHC: Yes; Schedule B: 8532240020, 8532240020|8532240020, 8532240020|8532240020|8532240020, 8532240020|8532240020|8532240020|8532240020; Termination: SMD/SMT; Thickness: 558.8µm; Voltage Rating: 50V; Voltage Rating (DC): 50V; Weight: 652.039032µg; Width: 500µm; ComponentLink1URL: https://datasheet.octopart.com:443/CC0402CRNPO9BN4R3-Yageo-datasheet-78855684.pdf?src-supplier=IHS; ComponentLink1Description: https://datasheet.octopart.com:443/CC0402CRNPO9BN4R3-Yageo-datasheet-78855684.pdf?src-supplier=IHS; ComponentLink2URL: https://datasheet.octopart.com:443/CC0402CRNPO9BN4R3-Yageo-datasheet-182878106.pdf?src-supplier=Farnell; ComponentLink2Description: https://datasheet.octopart.com:443/CC0402CRNPO9BN4R3-Yageo-datasheet-182878106.pdf?src-supplier=Farnell; ComponentLink3URL: https://datasheet.octopart.com:443/CC0402CRNPO9BN4R3-Yageo-datasheet-151948684.pdf?src-supplier=Newark; ComponentLink3Description: https://datasheet.octopart.com:443/CC0402CRNPO9BN4R3-Yageo-datasheet-151948684.pdf?src-supplier=Newark; ComponentLink4URL: https://datasheet.octopart.com:443/CC0402CRNPO9BN4R3-Yageo-datasheet-137875056.pdf?src-supplier=Future+Electronics; ComponentLink4Description: https://datasheet.octopart.com:443/CC0402CRNPO9BN4R3-Yageo-datasheet-137875056.pdf?src-supplier=Future+Electronics; ComponentLink5URL: https://datasheet.octopart.com:443/CC0402CRNPO9BN4R3-Yageo-datasheet-137700082.pdf?src-supplier=Future+Electronics; ComponentLink5Description: https://datasheet.octopart.com:443/CC0402CRNPO9BN4R3-Yageo-datasheet-137700082.pdf?src-supplier=Future+Electronics; ComponentLink6URL: https://datasheet.octopart.com:443/CC0402CRNPO9BN4R3-Yageo-datasheet-16730043.pdf?src-supplier=Future+Electronics; ComponentLink6Description: https://datasheet.octopart.com:443/CC0402CRNPO9BN4R3-Yageo-datasheet-16730043.pdf?src-supplier=Future+Electronics; ComponentLink7URL: https://datasheet.octopart.com:443/CC0402CRNPO9BN4R3-Yageo-datasheet-12589826.pdf?src-supplier=Future+Electronics; ComponentLink7Description: https://datasheet.octopart.com:443/CC0402CRNPO9BN4R3-Yageo-datasheet-12589826.pdf?src-supplier=Future+Electronics; ComponentLink8URL: https://datasheet.octopart.com:443/CC0402CRNPO9BN4R3-Yageo-datasheet-10406438.pdf?src-supplier=Future+Electronics; ComponentLink8Description: https://datasheet.octopart.com:443/CC0402CRNPO9BN4R3-Yageo-datasheet-10406438.pdf?src-supplier=Future+Electronics; ComponentLink9URL: https://datasheet.octopart.com:443/CC0402CRNPO9BN4R3-Yageo-datasheet-8817079.pdf?src-supplier=Future+Electronics; ComponentLink9Description: https://datasheet.octopart.com:443/CC0402CRNPO9BN4R3-Yageo-datasheet-8817079.pdf?src-supplier=Future+Electronics; ComponentLink10URL: https://datasheet.octopart.com:443/CC0402CRNPO9BN4R3-Yageo-datasheet-8324240.pdf?src-supplier=Future+Electronics; ComponentLink10Description: https://datasheet.octopart.com:443/CC0402CRNPO9BN4R3-Yageo-datasheet-8324240.pdf?src-supplier=Future+Electronics; ComponentLink11URL: https://datasheet.octopart.com:443/CC0402CRNPO9BN4R3-Yageo-datasheet-504625.pdf?src-supplier=Future+Electronics; ComponentLink11Description: https://datasheet.octopart.com:443/CC0402CRNPO9BN4R3-Yageo-datasheet-504625.pdf?src-supplier=Future+Electronics; ComponentLink12URL: https://datasheet.octopart.com:443/CC0402CRNPO9BN4R3-Yageo-datasheet-5321569.pdf?src-supplier=Future+Electronics; ComponentLink12Description: https://datasheet.octopart.com:443/CC0402CRNPO9BN4R3-Yageo-datasheet-5321569.pdf?src-supplier=Future+Electronics; ComponentLink13URL: http://sigma.octopart.com:80/rohs_statement/Yageo-company-2.pdf?src-supplier=Compliance+Statements; ComponentLink13Description: http://sigma.octopart.com:80/rohs_statement/Yageo-company-2.pdf?src-supplier=Compliance+Statements; ComponentLink14URL: http://sigma.octopart.com:80/conflict_mineral_statement/Yageo-company-3.pdf?src-supplier=Compliance+Statements; ComponentLink14Description: http://sigma.octopart.com:80/conflict_mineral_statement/Yageo-company-3.pdf?src-supplier=Compliance+Statements; LCSC Part #: C260571
footprint 0402_C
pins: 1, 2

## C_4.7uF_0402
designator C?, comment 4.7uF
CAP CER 4.7UF 16V X5R 0402; Manufacturer: Samsung; Manufacturer Part Number: CL05A475MO5NUNC; Dielectric Material: Ceramic; Multilayer: Yes; Tolerance  (fill in as +-): 20%; Supplier: Digikey; Supplier Part Number: 1276-6836-1-ND; RoHS: Yes; Category: Ceramic Capacitors; Stock: 200989; Pricing: 1=0.43, 10=0.252, 50=0.1826, 100=0.161, 500=0.12446, 1000=0.11305, 2500=0.10094, 5000=0.0936, 10000=0.08752, 20000=0.08248, 30000=0.07994, 50000=0.07712, 70000=0.07547, 100000=0.07387 (USD); Mounting Technology: Surface Mount; Pins: 2; Package Shape: Rectangular; Case/Package: 0402; Terminal Finish: Nickel; Min Operating Temperature: -55°C; Max Operating Temperature: 85°C; JESD-609 Code: e3; Value: 4.7uF; Capacitor Type: Ceramic; Package Style: SMTMeter; Packaging: Tape and Reel; Tolerance (fill in as +-): 20%; Rated DC Voltage (URdc): 16V; Temperature Characteristics Code: X5R; Termination: Wraparound; Length: 1mm; Width: 0.5mm; Height: 0.7mm; Reach SVHC Compliant: Yes; RoHS Compliant: Yes; ComponentLink1URL: https://datasheet.ciiva.com:443/pdfs/VipMasterIC/IC/SEMS/SEMS-S-A0008384515/SEMS-S-A0008898881-1.pdf?src-supplier=IHS+Markit; ComponentLink1Description: https://datasheet.ciiva.com:443/pdfs/VipMasterIC/IC/SEMS/SEMS-S-A0008384515/SEMS-S-A0008898881-1.pdf?src-supplier=IHS+Markit; ComponentLink2URL: http://www.farnell.com/datasheets/2710653.pdf?src-supplier=Farnell; ComponentLink2Description: http://www.farnell.com/datasheets/2710653.pdf?src-supplier=Farnell; ComponentLink3URL: http://www.samsungsem.com/kr/support/product-search/mlcc/CL05A475MO5NUNC.jsp?src-supplier=Digikey; ComponentLink3Description: http://www.samsungsem.com/kr/support/product-search/mlcc/CL05A475MO5NUNC.jsp?src-supplier=Digikey; ComponentLink4URL: http://www.farnell.com/datasheets/2710653.pdf?src-supplier=Newark; ComponentLink4Description: http://www.farnell.com/datasheets/2710653.pdf?src-supplier=Newark; ComponentLink5URL: http://www.farnell.com/datasheets/2710653.pdf?src-supplier=Element14; ComponentLink5Description: http://www.farnell.com/datasheets/2710653.pdf?src-supplier=Element14; ComponentLink6URL: https://datasheet.octopart.com/CL05A475MO5NUNC-Samsung-Electro-Mechanics-datasheet-123102911.pdf?src-supplier=Future+Electronics; ComponentLink6Description: https://datasheet.octopart.com/CL05A475MO5NUNC-Samsung-Electro-Mechanics-datasheet-123102911.pdf?src-supplier=Future+Electronics; LCSC Part #: C318563
footprint 0402_C
pins: 1, 2

## C_4.7uF_0603
designator C?, comment 4.7uF
CAP CER 4.7UF 10V X5R 0603; Manufacturer_Name: SAMSUNG; Manufacturer_Part_Number: CL10A475KP8NNNC; Datasheet Link: https://www.arrow.com/en/products/cl10a475kp8nnnc/samsung-electro-mechanics; Height: 0.9mm; Mouser Part Number: 187-CL10A475KP8NNNC; Mouser Price/Stock: https://www.mouser.co.uk/ProductDetail/Samsung-Electro-Mechanics/CL10A475KP8NNNC?qs=hqM3L16%252BxlfQRmkWsZz5vA%3D%3D; Arrow Part Number: CL10A475KP8NNNC; Arrow Price/Stock: https://www.arrow.com/en/products/cl10a475kp8nnnc/samsung-electro-mechanics?utm_currency=USD&region=nac; LCSC Part #: C1705
footprint 0603
pins: 1, 2

## C_6pF_0402_1_1
designator C?, comment 6pF
CAP CER 6PF 50V C0G/NP0 0402; Manufacturer: Murata; Manufacturer Part Number: GCM1555C1H6R0DA16D; Manufacturer Lifecycle Status: IN PRODUCTION; Dielectric: C0G; Dielectric Material: Ceramic; Temperature Coefficient: 30ppm/°C; Case Code (Metric): 1005; China RoHS: Compliant; Composition: Ceramic; Depth: 500µm; Halogen Free: Halogen Free; Height: 500µm; Lead Free: Lead Free; Length: 1mm; Lifecycle Status: Production; Max Operating Temperature: 125°C; Min Operating Temperature: -55°C; Mounting Technology: Surface Mount; Number of Terminals: 2; Packaging: Tape and Reel; Radiation Hardening: No; REACH SVHC: Yes; Schedule B: 8532240020, 8532240020|8532240020, 8532240020|8532240020|8532240020, 8532240020|8532240020|8532240020|8532240020; Termination: SMD/SMT; Thickness: 558.8µm; Voltage Rating: 50V; Voltage Rating (DC): 50V; Weight: 652.039032µg; Width: 500µm; LCSC Part #: C437444; Supplier: DigiKey; Supplier Part Number: 490-GCM1555C1H6R0DA16DCT-ND; RoHS: Compliant; Category: Ceramic Capacitors; Stock: 23861; Pricing: 1=0.1, 10=0.043, 50=0.029, 100=0.025, 500=0.01582, 1000=0.01376, 2500=0.01092, 5000=0.01091 (USD); Value: 6pF; Case/Package: 0402; Case Code (Imperial): 0402; Material: Ceramic; Ratings: AEC-Q200; ComponentLink1URL: https://datasheet.octopart.com:443/GCM1555C1H6R0DA16D-Murata-datasheet-149522374.pdf?src-supplier=Newark; ComponentLink1Description: https://datasheet.octopart.com:443/GCM1555C1H6R0DA16D-Murata-datasheet-149522374.pdf?src-supplier=Newark; ComponentLink2URL: https://datasheet.octopart.com:443/GCM1555C1H6R0DA16D-Murata-datasheet-141266029.pdf?src-supplier=Geoflip; ComponentLink2Description: https://datasheet.octopart.com:443/GCM1555C1H6R0DA16D-Murata-datasheet-141266029.pdf?src-supplier=Geoflip; ComponentLink3URL: https://datasheet.octopart.com:443/GCM1555C1H6R0DA16D-Murata-datasheet-179107994.pdf?src-supplier=Arrow.cn; ComponentLink3Description: https://datasheet.octopart.com:443/GCM1555C1H6R0DA16D-Murata-datasheet-179107994.pdf?src-supplier=Arrow.cn; ComponentLink4URL: https://datasheet.octopart.com:443/GCM1555C1H6R0DA16D-Murata-datasheet-140656144.pdf?src-supplier=Ciiva; ComponentLink4Description: https://datasheet.octopart.com:443/GCM1555C1H6R0DA16D-Murata-datasheet-140656144.pdf?src-supplier=Ciiva; ComponentLink5URL: https://datasheet.octopart.com:443/GCM1555C1H6R0DA16D-Murata-datasheet-138715845.pdf?src-supplier=Ciiva; ComponentLink5Description: https://datasheet.octopart.com:443/GCM1555C1H6R0DA16D-Murata-datasheet-138715845.pdf?src-supplier=Ciiva; ComponentLink6URL: http://sigma.octopart.com:80/reach_statement/Murata-company-16.pdf?src-supplier=Compliance+Statements; ComponentLink6Description: http://sigma.octopart.com:80/reach_statement/Murata-company-16.pdf?src-supplier=Compliance+Statements; Parameter 1: *
footprint 0402_C
pins: 1, 2

## C_10uF_0402
designator C?, comment 10uF
Ceramic Capacitor, Multilayer, Ceramic, 10V, 20% +Tol, 20% -Tol, X5R, +-15% TC, 10uF, Surface Mount, 0402 inch; Manufacturer: Samsung Electro-Mechanics; Manufacturer Part Number: CL05A106MP5NUNC; Value: 10µF; LCSC Part #: C315248; Supplier: DigiKey; Supplier Part Number: 1276-1450-1-ND; RoHS: Compliant; Category: Ceramic Capacitors; Stock: 1973072; Pricing: 1=0.08, 10=0.038, 50=0.034, 100=0.0296, 500=0.0272, 1000=0.02, 2500=0.01844 (USD); Case/Package: 0402; Case Code (Imperial): 0402; Case Code (Metric): 1005; China RoHS: Compliant; Contact Plating: Tin; Depth: 500µm; Dielectric: X5R; Dielectric Material: Ceramic; Height: 700µm; Lead Free: Lead Free; Length: 1mm; Lifecycle Status: NRND; Material: Ceramic; Max Operating Temperature: 85°C; Min Operating Temperature: -55°C; Mounting Technology: Surface Mount; Number of Terminals: 2; Packaging: Tape and Reel; Radiation Hardening: No; REACH SVHC: Yes; Schedule B: 8532240020, 8532240020|8532240020|8532240020|8532240020|8532240020|8532240020|8532240020|8532240020|8532240020|8532240020|8532240020|8532240020|8532240020|8532240020|8532240020|8532240020|8532240020|8532240020|8532240020|8532240020|8532240020|8532240020|8532240020|85; Termination: Wraparound; Thickness: 711.2µm; Tolerance: 20%; Voltage Rating: 10V; Voltage Rating (DC): 10V; Width: 500µm; ComponentLink1URL: https://datasheet.octopart.com:443/CL05A106MP5NUNC-Samsung-Electro-Mechanics-datasheet-182018593.pdf?src-supplier=IHS; ComponentLink1Description: https://datasheet.octopart.com:443/CL05A106MP5NUNC-Samsung-Electro-Mechanics-datasheet-182018593.pdf?src-supplier=IHS; ComponentLink2URL: https://datasheet.octopart.com:443/CL05A106MP5NUNC-Samsung-Electro-Mechanics-datasheet-136031723.pdf?src-supplier=Upverter; ComponentLink2Description: https://datasheet.octopart.com:443/CL05A106MP5NUNC-Samsung-Electro-Mechanics-datasheet-136031723.pdf?src-supplier=Upverter; ComponentLink3URL: https://datasheet.octopart.com:443/CL05A106MP5NUNC-Samsung-Electro-Mechanics-datasheet-110226206.pdf?src-supplier=Future+Electronics; ComponentLink3Description: https://datasheet.octopart.com:443/CL05A106MP5NUNC-Samsung-Electro-Mechanics-datasheet-110226206.pdf?src-supplier=Future+Electronics; ComponentLink4URL: https://datasheet.octopart.com:443/CL05A106MP5NUNC-Samsung-Electro-Mechanics-datasheet-87580039.pdf?src-supplier=Future+Electronics; ComponentLink4Description: https://datasheet.octopart.com:443/CL05A106MP5NUNC-Samsung-Electro-Mechanics-datasheet-87580039.pdf?src-supplier=Future+Electronics; ComponentLink5URL: https://datasheet.octopart.com:443/CL05A106MP5NUNC-Samsung-Electro-Mechanics-datasheet-81461595.pdf?src-supplier=Future+Electronics; ComponentLink5Description: https://datasheet.octopart.com:443/CL05A106MP5NUNC-Samsung-Electro-Mechanics-datasheet-81461595.pdf?src-supplier=Future+Electronics; ComponentLink6URL: https://datasheet.octopart.com:443/CL05A106MP5NUNC-Samsung-datasheet-42280527.pdf?src-supplier=Future+Electronics; ComponentLink6Description: https://datasheet.octopart.com:443/CL05A106MP5NUNC-Samsung-datasheet-42280527.pdf?src-supplier=Future+Electronics; ComponentLink7URL: https://datasheet.octopart.com:443/CL05A106MP5NUNC-Samsung-datasheet-34153002.pdf?src-supplier=Future+Electronics; ComponentLink7Description: https://datasheet.octopart.com:443/CL05A106MP5NUNC-Samsung-datasheet-34153002.pdf?src-supplier=Future+Electronics; ComponentLink8URL: https://datasheet.octopart.com:443/CL05A106MP5NUNC-Samsung-datasheet-25077983.pdf?src-supplier=Future+Electronics; ComponentLink8Description: https://datasheet.octopart.com:443/CL05A106MP5NUNC-Samsung-datasheet-25077983.pdf?src-supplier=Future+Electronics; ComponentLink9URL: https://datasheet.octopart.com:443/CL05A106MP5NUNC-Samsung-Electro-Mechanics-datasheet-149136670.pdf?src-supplier=Future+Electronics; ComponentLink9Description: https://datasheet.octopart.com:443/CL05A106MP5NUNC-Samsung-Electro-Mechanics-datasheet-149136670.pdf?src-supplier=Future+Electronics; ComponentLink10URL: https://datasheet.octopart.com:443/CL05A106MP5NUNC-Samsung-datasheet-8326407.pdf?src-supplier=TME; ComponentLink10Description: https://datasheet.octopart.com:443/CL05A106MP5NUNC-Samsung-datasheet-8326407.pdf?src-supplier=TME
footprint 0402_C
pins: 1, 2